# Altium footprint library STeRG-Passives-Standard.PcbLib: 54 footprints (part 2 of 4)
Each footprint in its own frame and in the unit in brackets; x right, y up, seen from the top. Pads: shape width x height; smd on the part's side, far side on the other; paste and mask are expansions set on the pad; w line width, h text height; cw(c..) or ccw(c..) is an arc to the next point about the centre after c.
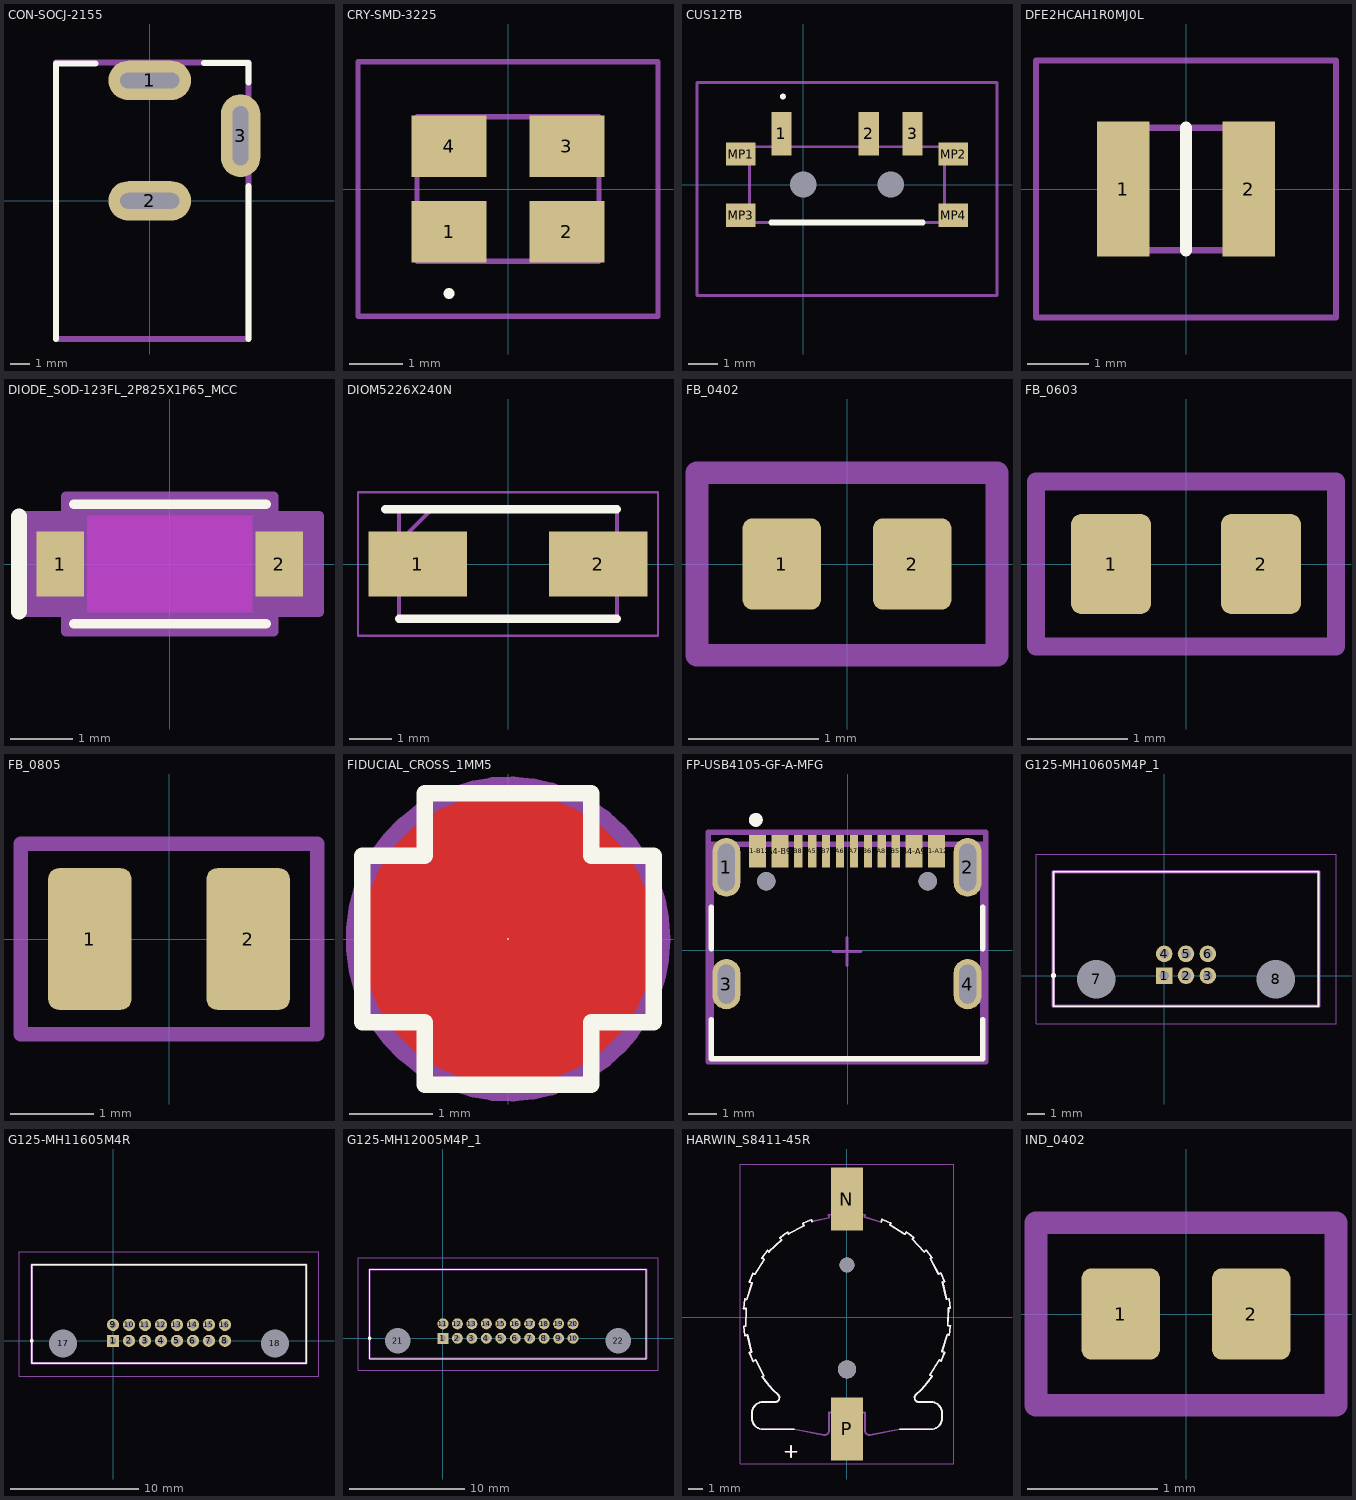
[diagram p1: the footprints below, top view; thin cyan lines are the x and y axes]

## CON-SOCJ-2155 [mm]
pads (3):
  oval 4.2x2 hole 0.8 slot 3 at 0 deg: 1(0,6.1) 2(0,0)
  oval 2x4.2 hole 0.8 slot 3 at 90 deg: 3(4.6,3.3)
Top Overlay:
  lines w0.3: -4.75,-7 -4.75,6.95 -2.75,6.95 ; 2.75,6.976 5,6.976 5,6 ; 5,-7 5,0.75
Mechanical 13:
  lines w0.3: -4.75,-7 -4.75,7 5,7 5,-7 -4.75,-7
  text "'.Designator'" at -5.665,-0.417 h1
3D body "CON-SOCJ-2155.STEP": height 11.11, standoff -4.29, extent -4.5,-7.5 4.75,6.6

## CRY-SMD-3225 [mm]
pads (4):
  rect 1.4x1.15 smd: 1(-1.1,-0.8) 2(1.1,-0.8) 3(1.1,0.8) 4(-1.1,0.8)
Top Overlay:
  lines w0.1: -1.1,-2 ccw(c-1.1,-1.95) -1.1,-1.9 ccw(c-1.1,-1.95) -1.1,-2
Mechanical 13:
  lines w0.1: -1.7,-1.35 1.7,-1.35 1.7,1.35 -1.7,1.35 -1.7,-1.35
Mechanical 15:
  lines w0.1: -2.8,-2.375 2.8,-2.375 2.8,2.375 -2.8,2.375 -2.8,-2.375
3D body "830055474.stp": height 0.65, standoff 0, extent -1.7,-1.35 1.7,1.35

## CUS12TB [mm]
pads (9):
  rect 0.7x1.5 smd: 1(-0.75,1.75) 2(2.25,1.75) 3(3.75,1.75)
  round 0.45 hole 0.9 unplated: MH1(0,0) MH2(3,0)
  rect 1x0.8 smd: MP1(-2.15,1.05) MP2(5.15,1.05) MP3(-2.15,-1.05) MP4(5.15,-1.05)
Top Overlay:
  lines w0.1: -0.7,2.975 cw(c-0.7,3.025) -0.7,3.075 cw(c-0.7,3.025) -0.7,2.975
  lines w0.2: -1.1,-1.3 4.1,-1.3 ; 1.6,-1.3 2.9,-1.3
Mechanical 13:
  lines w0.1: -1.85,-1.3 4.85,-1.3 4.85,1.3 -1.85,1.3 -1.85,-1.3
  text "'.Designator'" at -4.791,-1.447 h1
Mechanical 15:
  lines w0.1: -3.65,-3.8 6.65,-3.8 6.65,3.5 -3.65,3.5 -3.65,-3.8
3D body "CUS-12TB.stp": height 1.47, standoff -0.49, extent -2.315,-2.76 5.363,2.235

## DFE2HCAH1R0MJ0L [mm]
pads (2):
  rect 0.85x2.2 smd: 1(-1.025,0) 2(1.025,0)
Top Overlay:
  lines w0.2: 0,-1 0,1
Mechanical 13:
  lines w0.1: -1.25,-1 -1.25,1 1.25,1 1.25,-1 -1.25,-1
Mechanical 15:
  lines w0.1: -2.45,-2.1 -2.45,2.1 2.45,2.1 2.45,-2.1 -2.45,-2.1
3D body "DFE252012F-R68M=P2.stp": height 1.2, standoff 0, extent -1.25,-1 1.25,1

## DIODE_SOD-123FL_2P825X1P65_MCC [mil]
pads (2):
  rect 29.87x41 smd paste+0 mask+0: 1(-68.94,0) 2(68.94,0)
Top Layer keep-out:
  region: -52,-30.5 -52,30.5 52,30.5 52,-30.5
Top Overlay:
  lines w6: -60.5,-37.5 60.5,-37.5 ; -60.5,37.5 60.5,37.5
  lines w10: -95,-30 -95,30
Keep-Out Layer:
  region: -52,-30.5 -52,30.5 52,30.5 52,-30.5
Mechanical 13:
  lines w1: -55.5,-16.25 -39.25,-32.5 ; -55.5,16.25 -39.25,32.5 ; -76,-20.5 -55.5,-20.5 -55.5,20.5 -76,20.5 -76,-20.5 ; -55.5,-32.5 -55.5,32.5 55.5,32.5 55.5,-32.5 -55.5,-32.5 ; 55.5,-20.5 76,-20.5 76,20.5 55.5,20.5 55.5,-20.5
  text ".Designator" at -137.5,-25 h50
  text "*" at -58,-25 h50
Mechanical 15:
  region: -65.5,-30.5 -93.87,-30.5 -93.87,30.5 -65.5,30.5 -65.5,42.5 65.5,42.5 65.5,30.5 93.87,30.5 93.87,-30.5 65.5,-30.5 65.5,-42.5 -65.5,-42.5
  lines w6: -93.87,-30.5 -65.5,-30.5 -65.5,-42.5 65.5,-42.5 65.5,-30.5 93.87,-30.5 93.87,30.5 65.5,30.5 65.5,42.5 -65.5,42.5 -65.5,30.5 -93.87,30.5 -93.87,-30.5
3D body "DIODE_SOD-123FL_2P825X1P65_MCC.step": height 47.24, standoff 0, extent -75.98,-32.52 75.98,32.52

## DIOM5226X240N [mm]
pads (2):
  rect 2.35x1.55 smd: 1(-2.15,0) 2(2.15,0)
Top Overlay:
  lines w0.2: -2.925,1.302 2.598,1.302 ; -2.598,-1.302 2.598,-1.302
Mechanical 13:
  lines w0.1: -2.598,0.528 -1.822,1.302 ; -2.598,-1.302 2.598,-1.302 2.598,1.302 -2.598,1.302 -2.598,-1.302
  text "'.Designator'" at -6.188,-1.193 h1
Mechanical 15:
  lines w0.05: -3.575,-1.71 3.575,-1.71 3.575,1.71 -3.575,1.71 -3.575,-1.71
3D body "B120-13-F.stp": height 2.11, standoff 0, extent -2.541,-1.398 2.539,1.402

## FB_0402 [mm]
pads (2):
  rrect25% 0.6x0.7 smd: 1(-0.5,0) 2(0.5,0)
Mechanical 13:
  lines w0.175: -1.15,-0.7 -1.15,0.7 1.15,0.7 1.15,-0.7 -1.15,-0.7
  text "'.Designator'" at -5.665,-0.417 h1
3D body "FB0402.stp": height 0.51, standoff 0.01, extent -0.5,-0.25 0.5,0.25

## FB_0603 [mm]
pads (2):
  rrect25% 0.8x1 smd: 1(-0.75,0) 2(0.75,0)
Mechanical 13:
  lines w0.175: -1.5,-0.825 -1.5,0.825 1.5,0.825 1.5,-0.825 -1.5,-0.825
  text "'.Designator'" at -5.665,-0.417 h1
3D body "FB-0603.STEP": height 0.81, standoff 0.01, extent -0.8,-0.4 0.8,0.4

## FB_0805 [mm]
pads (2):
  rrect25% 1x1.7 smd: 1(-0.95,0) 2(0.95,0)
Mechanical 13:
  lines w0.175: -1.778,-1.143 -1.778,1.143 1.778,1.143 1.778,-1.143 -1.778,-1.143
  text "'.Designator'" at -5.665,-0.417 h1
3D body "FB_0805.STEP": height 0.86, standoff 0.01, extent -1,-0.625 1,0.625

## FIDUCIAL_CROSS_1MM5 [mil]
pads (1):
  round 1 smd paste-19.68: FM(0,0)
Top Layer:
  pour cut-out: 0,68.9 6.79,68.9 20.1,66.25 32.64,61.06 43.92,53.52 53.52,43.92 61.06,32.64 66.25,20.1 68.9,6.79 68.9,0 68.9,-6.79 66.25,-20.1 61.06,-32.64 53.52,-43.92 43.92,-53.52 32.64,-61.06 20.1,-66.25 6.79,-68.9 0,-68.9 -6.79,-68.9 -20.1,-66.25 -32.64,-61.06 -43.92,-53.52 -53.52,-43.92 -61.06,-32.64 -66.25,-20.1 -68.9,-6.79 -68.9,0 -68.9,6.79 -66.25,20.1 -61.06,32.64 -53.52,43.92 -43.92,53.52 -32.64,61.06 -20.1,66.25 -6.79,68.9
  region: -9.84,-29.53 -9.84,-9.84 -29.53,-9.84 -29.53,9.84 -9.84,9.84 -9.84,29.53 9.84,29.53 9.84,9.84 29.53,9.84 29.53,-9.84 9.84,-9.84 9.84,-29.53
Top Overlay:
  lines w7.87: -68.9,-39.37 -39.37,-39.37 -39.37,-68.9 39.37,-68.9 39.37,-39.37 68.9,-39.37 68.9,39.37 39.37,39.37 39.37,68.9 -39.37,68.9 -39.37,39.37 -68.9,39.37 -68.9,0 -68.9,-39.37
Top Solder:
  region: -59.06,29.53 -29.53,29.53 -29.53,59.06 29.53,59.06 29.53,29.53 59.06,29.53 59.06,-29.53 29.53,-29.53 29.53,-59.06 -29.53,-59.06 -29.53,-29.53 -59.06,-29.53
Mechanical 13:
  circle w11.81: c0,0 r70.98
  text "'.Designator'" at -223.03,-16.4 h39.37

## FP-USB4105-GF-A-MFG [mm]
pads (18):
  rrect100% 1x2.1 hole 1.7 slot 0.6 at 0 deg paste-2539.97 mask+0: 1(-4.351,2.964) 2(4.289,2.964)
  rrect100% 1x1.8 hole 1.4 slot 0.6 at 0 deg paste-2539.97 mask+0: 3(-4.351,-1.216) 4(4.289,-1.216)
  rect 0.6x1.15 smd paste+0 mask+0: A1-B12(-3.231,3.539) A4-B9(-2.431,3.539) B1-A12(3.169,3.539) B4-A9(2.369,3.539)
  rect 0.3x1.15 smd paste+0 mask+0: A5(-1.281,3.539) A6(-0.281,3.539) A7(0.219,3.539) A8(1.219,3.539) B5(1.719,3.539) B6(0.719,3.539) B7(-0.781,3.539) B8(-1.781,3.539)
  round 0.65 hole 0.65 unplated paste-2539.97 mask+0: ""(-2.921,2.464) ""(2.859,2.464)
Top Overlay:
  circle w0.25: c-3.296,4.664 r0.125
  lines w0.2: -4.896,-2.491 -4.896,-3.891 4.834,-3.891 4.834,-2.491 ; -4.896,0.059 -4.896,1.539 ; 4.834,0.059 4.834,1.539
Top 3D Body:
  lines w0.2: -4.896,-3.891 4.834,-3.891 4.834,3.789 -4.896,3.789 -4.896,-3.891
Board:
  lines w0.2: -4.996,-3.991 4.934,-3.991 4.934,4.214 -4.996,4.214 -4.996,-3.991
Top Assembly:
  lines w0.2: -4.996,-3.991 4.934,-3.991 4.934,4.214 -4.996,4.214 -4.996,-3.991
  text ".Designator" at -0.031,0.299 h1
Top Component Center:
  lines w0.1: -0.531,-0.051 0.469,-0.051 ; -0.031,-0.551 -0.031,0.449
3D body "Conn_GCT_USB4105-GF-A_eec.STEP": height 0.25, standoff 0, extent -4.996,-3.991 4.934,4.214

## G125-MH10605M4P_1 [mm]
pads (8):
  rect 0.95x0.95 hole 0.55: 1(0,0)
  round 0.95 hole 0.55: 2(1.25,0) 3(2.5,0) 4(0,1.25) 5(1.25,1.25) 6(2.5,1.25)
  round 1.1 hole 2.2 unplated: 7(-3.9,-0.2) 8(6.4,-0.2)
Top Overlay:
  circle w0.2: c-6.35,0 r0.05
  lines w0.1: -6.35,-1.75 8.85,-1.75 8.85,5.95 -6.35,5.95 -6.35,-1.75
Mechanical 13:
  lines w0.2: -6.35,-1.75 8.85,-1.75 8.85,5.95 -6.35,5.95 -6.35,-1.75
Mechanical 15:
  lines w0.05: -7.35,-2.75 9.85,-2.75 9.85,6.95 -7.35,6.95 -7.35,-2.75
3D body "G125-MH10605M4P.stp": height 5.17, standoff -3.39, extent -6.35,-1.75 8.85,5.95

## G125-MH11605M4R [mm]
pads (18):
  rect 0.95x0.95 hole 0.55: 1(0,0)
  round 0.95 hole 0.55: 2(1.25,0) 3(2.5,0) 4(3.75,0) 5(5,0) 6(6.25,0) 7(7.5,0) 8(8.75,0) 9(0,1.25) 10(1.25,1.25) 11(2.5,1.25) 12(3.75,1.25) 13(5,1.25) 14(6.25,1.25) 15(7.5,1.25) 16(8.75,1.25)
  round 1.1 hole 2.2 unplated: 17(-3.9,-0.2) 18(12.65,-0.2)
Top Overlay:
  circle w0.2: c-6.35,0 r0.05
  lines w0.1: -6.35,-1.75 15.1,-1.75 15.1,5.95 -6.35,5.95 -6.35,-1.75
Mechanical 13:
  lines w0.2: -6.35,-1.75 15.1,-1.75 15.1,5.95 -6.35,5.95 -6.35,-1.75
Mechanical 15:
  lines w0.05: -7.35,-2.75 16.1,-2.75 16.1,6.95 -7.35,6.95 -7.35,-2.75
3D body "G125-MH11605M4R.stp": height 5.28, standoff -3.27, extent -6.355,-1.75 15.095,5.95

## G125-MH12005M4P_1 [mm]
pads (22):
  rect 0.95x0.95 hole 0.55: 1(0,0)
  round 0.95 hole 0.55: 2(1.25,0) 3(2.5,0) 4(3.75,0) 5(5,0) 6(6.25,0) 7(7.5,0) 8(8.75,0) 9(10,0) 10(11.25,0) 11(0,1.25) 12(1.25,1.25) 13(2.5,1.25) 14(3.75,1.25) 15(5,1.25) 16(6.25,1.25) 17(7.5,1.25) 18(8.75,1.25) 19(10,1.25) 20(11.25,1.25)
  round 1.1 hole 2.2 unplated: 21(-3.9,-0.2) 22(15.15,-0.2)
Top Overlay:
  circle w0.2: c-6.35,0 r0.05
  lines w0.1: -6.35,-1.75 17.6,-1.75 17.6,5.95 -6.35,5.95 -6.35,-1.75
Mechanical 13:
  lines w0.2: -6.35,-1.75 17.6,-1.75 17.6,5.95 -6.35,5.95 -6.35,-1.75
Mechanical 15:
  lines w0.05: -7.35,-2.75 18.6,-2.75 18.6,6.95 -7.35,6.95 -7.35,-2.75
3D body "G125-MH12005M4P.stp": height 5.21, standoff -3.36, extent -6.345,-1.75 17.605,5.95

## HARWIN_S8411-45R [mm]
height 4.25
pads (4):
  rect 2.3x4.5 smd: N(0,8.425) P(0,-7.975)
  round 1.3 hole 1.3 unplated: ""(0,-3.725)
  round 1.05 hole 1.05 unplated: ""(0,3.725)
Top Overlay:
  lines w0.127: -7.374,0.615 -7.18,0.608 -7.229,-0.649 -7.372,-0.643 ; -7.372,-0.645 ccw(c0,0) -7.288,-1.285 ; -7.372,0.645 cw(c0,0) -7.288,1.285 ; -7.287,1.287 -7.15,1.245 -6.778,2.446 -6.964,2.503 ; -7.282,-1.315 -7.093,-1.272 -6.814,-2.498 -6.954,-2.53 ; -6.954,-2.531 ccw(c0,0) -6.707,-3.127 ; -6.954,2.531 cw(c0,0) -6.707,3.127 ; -6.706,3.13 -6.584,3.053 -5.914,4.117 -6.079,4.22 ; -6.694,-3.155 -6.522,-3.065 -5.936,-4.177 -6.062,-4.243 ; -6.062,-4.244 ccw(c0,0) -4.952,-5.499 ; -6.062,4.244 cw(c0,0) -5.669,4.757 ; -5.667,4.759 -5.57,4.654 -4.647,5.508 -4.779,5.65 ; -4.921,-5.527 cw(c-5.121,-5.75) -5.121,-6.05 -5.984,-6.05 ccw(c-5.984,-6.85) -6.784,-6.85 -6.784,-7.2 ccw(c-5.984,-7.2) -5.984,-8 -3.764,-8 ; -4.757,5.669 cw(c0,0) -4.244,6.062 ; -4.4,-9.6 -3.6,-9.6 ; -4.242,6.063 -4.175,5.937 -3.063,6.523 -3.154,6.694 ; -4,-10 -4,-9.2 ; -3.127,6.707 cw(c0,0) -2.531,6.954 ; -2.528,6.955 -2.497,6.816 ; 2.447,6.78 2.504,6.964 ; 2.531,6.954 cw(c0,0) 3.127,6.707 ; 3.13,6.705 3.054,6.586 4.118,5.916 4.221,6.078 ; 3.764,-8 5.984,-8 ccw(c5.984,-7.2) 6.784,-7.2 6.784,-6.85 ccw(c5.984,-6.85) 5.984,-6.05 5.121,-6.05 cw(c5.121,-5.75) 4.921,-5.527 ; 4.244,6.062 cw(c0,0) 4.757,5.669 ; 4.759,5.667 4.655,5.571 5.509,4.649 5.65,4.779 ; 4.952,-5.499 ccw(c0,0) 6.062,-4.244 ; 5.669,4.757 cw(c0,0) 6.062,4.244 ; 6.063,4.243 5.938,4.177 6.525,3.065 6.694,3.154 ; 6.079,-4.219 5.917,-4.117 6.587,-3.053 6.706,-3.128 ; 6.707,-3.127 ccw(c0,0) 6.954,-2.531 ; 6.707,3.127 cw(c0,0) 6.954,2.531 ; 6.954,2.529 6.817,2.498 7.095,1.272 7.282,1.314 ; 6.964,-2.502 6.781,-2.446 7.153,-1.245 7.287,-1.286 ; 7.288,-1.285 ccw(c0,0) 7.372,-0.645 ; 7.288,1.285 cw(c0,0) 7.372,0.645 ; 7.372,0.643 7.231,0.649 7.183,-0.608 7.374,-0.615
Mechanical 13:
  lines w0.127: -7.374,0.615 -7.18,0.608 -7.229,-0.649 -7.372,-0.643 ; -7.372,-0.645 ccw(c0,0) -7.288,-1.285 ; -7.372,0.645 cw(c0,0) -7.288,1.285 ; -7.287,1.287 -7.15,1.245 -6.778,2.446 -6.964,2.503 ; -7.282,-1.315 -7.093,-1.272 -6.814,-2.498 -6.954,-2.53 ; -6.954,-2.531 ccw(c0,0) -6.707,-3.127 ; -6.954,2.531 cw(c0,0) -6.707,3.127 ; -6.706,3.13 -6.584,3.053 -5.914,4.117 -6.079,4.22 ; -6.694,-3.155 -6.522,-3.065 -5.936,-4.177 -6.062,-4.243 ; -6.062,-4.244 ccw(c0,0) -4.952,-5.499 ; -6.062,4.244 cw(c0,0) -5.669,4.757 ; -5.667,4.759 -5.57,4.654 -4.647,5.508 -4.779,5.65 ; -4.921,-5.527 cw(c-5.121,-5.75) -5.121,-6.05 -5.984,-6.05 ccw(c-5.984,-6.85) -6.784,-6.85 -6.784,-7.2 ccw(c-5.984,-7.2) -5.984,-8 -3.764,-8 -1.637,-8.4 ; -4.757,5.669 cw(c0,0) -4.244,6.062 ; -4.4,-9.6 -3.6,-9.6 ; -4.242,6.063 -4.175,5.937 -3.063,6.523 -3.154,6.694 ; -4,-10 -4,-9.2 ; -3.127,6.707 cw(c0,0) -2.531,6.954 ; -2.528,6.955 -2.497,6.816 -1.271,7.094 -1.313,7.283 ; -1.639,-8.4 ccw(c-1.582,-8.105) -1.282,-8.105 -1.282,-6.81 1.282,-6.81 1.282,-8.105 ccw(c1.582,-8.105) 1.639,-8.4 ; -1.285,7.288 cw(c0,0) -0.902,7.345 ; -0.9,7.33 0.9,7.33 ; 0.902,7.345 cw(c0,0) 1.285,7.288 ; 1.288,7.287 1.246,7.151 2.447,6.78 2.504,6.964 ; 1.637,-8.4 3.764,-8 5.984,-8 ccw(c5.984,-7.2) 6.784,-7.2 6.784,-6.85 ccw(c5.984,-6.85) 5.984,-6.05 5.121,-6.05 cw(c5.121,-5.75) 4.921,-5.527 ; 2.531,6.954 cw(c0,0) 3.127,6.707 ; 3.13,6.705 3.054,6.586 4.118,5.916 4.221,6.078 ; 4.244,6.062 cw(c0,0) 4.757,5.669 ; 4.759,5.667 4.655,5.571 5.509,4.649 5.65,4.779 ; 4.952,-5.499 ccw(c0,0) 6.062,-4.244 ; 5.669,4.757 cw(c0,0) 6.062,4.244 ; 6.063,4.243 5.938,4.177 6.525,3.065 6.694,3.154 ; 6.079,-4.219 5.917,-4.117 6.587,-3.053 6.706,-3.128 ; 6.707,-3.127 ccw(c0,0) 6.954,-2.531 ; 6.707,3.127 cw(c0,0) 6.954,2.531 ; 6.954,2.529 6.817,2.498 7.095,1.272 7.282,1.314 ; 6.964,-2.502 6.781,-2.446 7.153,-1.245 7.287,-1.286 ; 7.288,-1.285 ccw(c0,0) 7.372,-0.645 ; 7.288,1.285 cw(c0,0) 7.372,0.645 ; 7.372,0.643 7.231,0.649 7.183,-0.608 7.374,-0.615
Mechanical 15:
  lines w0.05: -7.624,-10.475 -7.624,10.925 7.624,10.925 7.624,-10.475 -7.624,-10.475
3D body "step_temp.STEP": height 4.25, standoff -0.95, extent -7.372,-9.6 7.372,9.6

## IND_0402 [mm]
pads (2):
  rrect25% 0.6x0.7 smd: 1(-0.5,0) 2(0.5,0)
Mechanical 13:
  lines w0.175: -1.15,-0.7 1.15,-0.7 1.15,0.7 -1.15,0.7 -1.15,-0.7
  text "'.Designator'" at -5.665,-0.417 h1
3D body "L0402.step": height 0.67, standoff 0.01, extent -0.56,-0.256 0.56,0.256